# Altium integrated library IR Rectifier - Schottky.IntLib: 340 symbols (part 2 of 5)
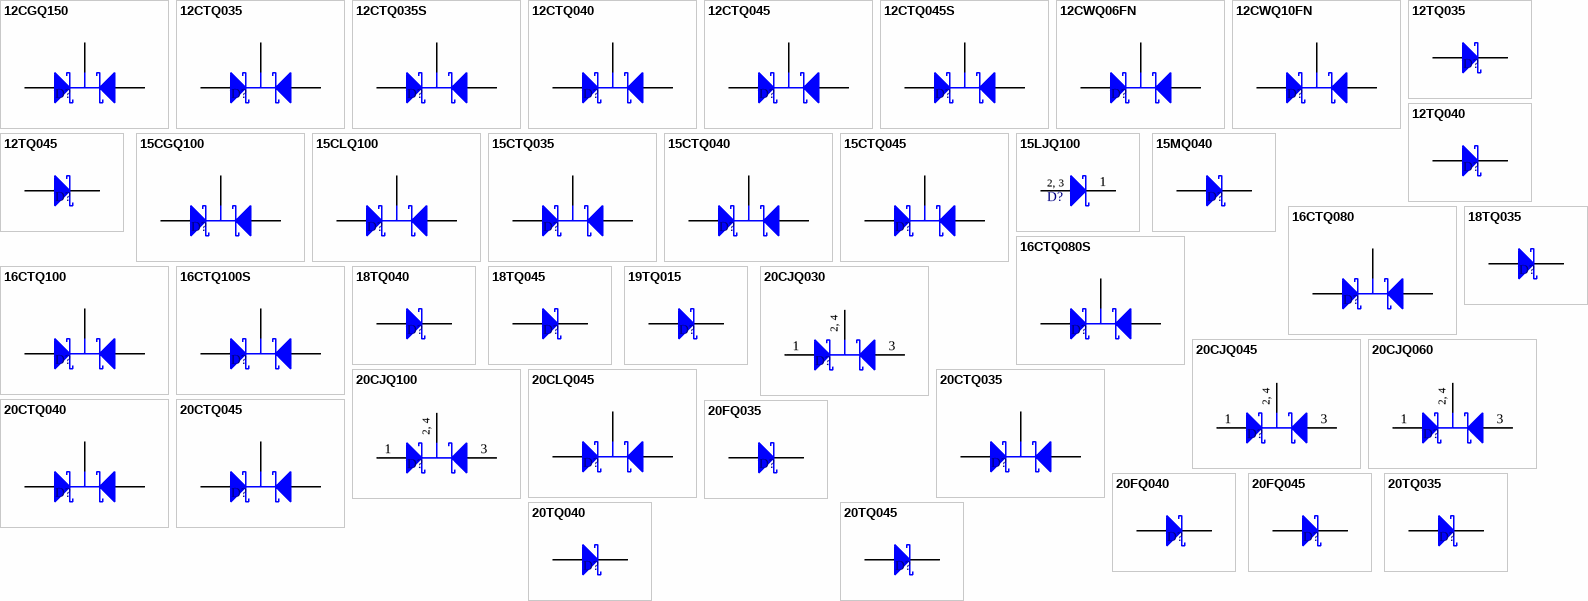
[diagram p9: symbols 12CGQ150 to 20TQ045]

## 20TQ035
designator D?
Schottky Rectifier; Note: Terminal 2 is the TAB and is electrically connected to the cathode; Published: 8-Jun-2000; LatestRevisionDate: 17-Jul-2002; LatestRevisionNote: Re-released for DXP Platform.; DatasheetDocument: Dec-1997; PackageDocument: Feb-1998; PackageReference: TO-220AC; Publisher: Altium Limited; ComponentLink1Description: Manufacturer Link; ComponentLink1URL: http://www.irf.com/; ComponentLink2Description: Datasheet; ComponentLink2URL: http://www.irf.com/product-info/datasheets/data/20tq.pdf
footprint TO-220AC (TO, Thru-Hole, Vertical, Heatsink Mounted; 3 In-Line Leads (1 Absent); Pitch 2.54 mm)
simulation model 20TQ035 (DIODE)
signal-integrity model 20TQ035
pins: 1 K, 3 A

## 20TQ040
designator D?
Schottky Rectifier; Note: Terminal 2 is the TAB and is electrically connected to the cathode; Published: 8-Jun-2000; LatestRevisionDate: 17-Jul-2002; LatestRevisionNote: Re-released for DXP Platform.; DatasheetDocument: Dec-1997; PackageDocument: Feb-1998; PackageReference: TO-220AC; Publisher: Altium Limited; ComponentLink1Description: Manufacturer Link; ComponentLink1URL: http://www.irf.com/; ComponentLink2Description: Datasheet; ComponentLink2URL: http://www.irf.com/product-info/datasheets/data/20tq.pdf
footprint TO-220AC (TO, Thru-Hole, Vertical, Heatsink Mounted; 3 In-Line Leads (1 Absent); Pitch 2.54 mm)
simulation model 20TQ040 (DIODE)
signal-integrity model 20TQ040
pins: 1 K, 3 A

## 20TQ045
designator D?
Schottky Rectifier; Note: Terminal 2 is the TAB and is electrically connected to the cathode; Published: 8-Jun-2000; LatestRevisionDate: 17-Jul-2002; LatestRevisionNote: Re-released for DXP Platform.; DatasheetDocument: Dec-1997; PackageDocument: Feb-1998; PackageReference: TO-220AC; Publisher: Altium Limited; ComponentLink1Description: Manufacturer Link; ComponentLink1URL: http://www.irf.com/; ComponentLink2Description: Datasheet; ComponentLink2URL: http://www.irf.com/product-info/datasheets/data/20tq.pdf
footprint TO-220AC (TO, Thru-Hole, Vertical, Heatsink Mounted; 3 In-Line Leads (1 Absent); Pitch 2.54 mm)
simulation model 20TQ045 (DIODE)
signal-integrity model 20TQ045
pins: 1 K, 3 A

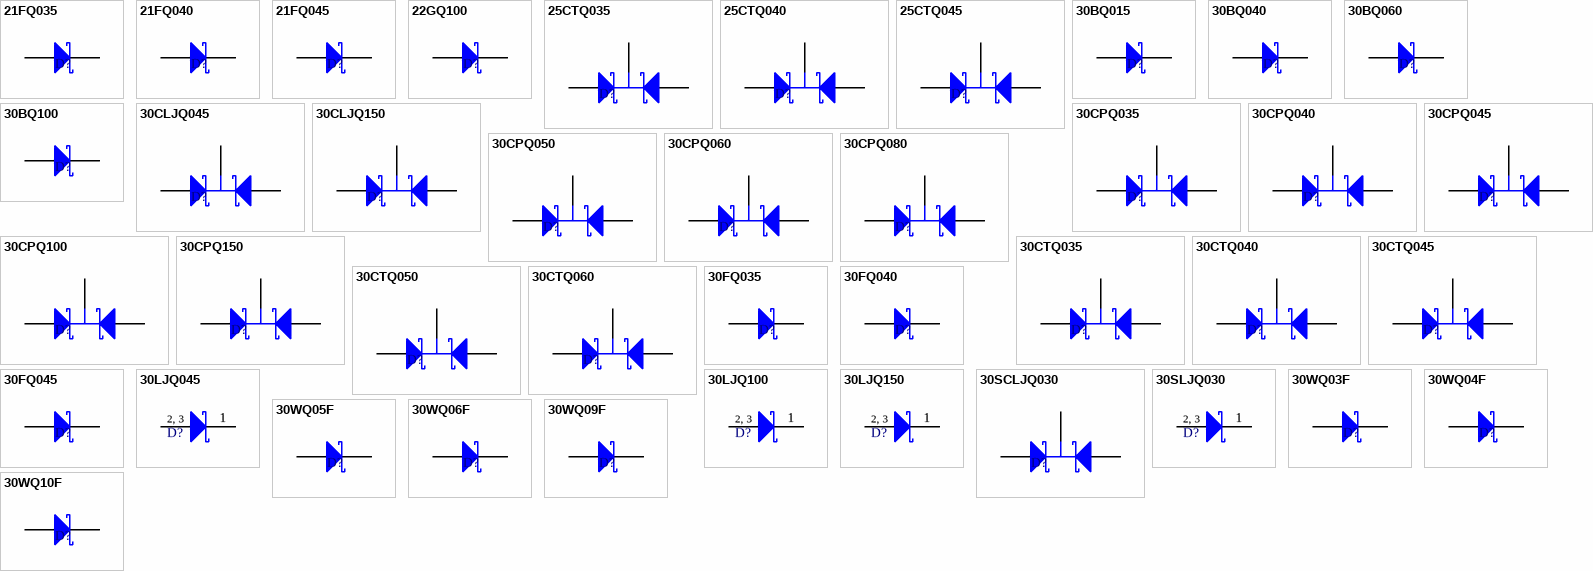
[diagram p2: symbols 21FQ035 to 30WQ10F]

## 21FQ035
designator D?
Schottky Rectifier; Note: No PCB Footprint Available; Published: 8-Jun-2000; LatestRevisionDate: 17-Jul-2002; LatestRevisionNote: Re-released for DXP Platform.; DatasheetDocument: Dec-1997; PackageReference: DO-203AA; Publisher: Altium Limited; ComponentLink1Description: Manufacturer Link; ComponentLink1URL: http://www.irf.com/; ComponentLink2Description: Datasheet; ComponentLink2URL: http://www.irf.com/product-info/datasheets/data/21fq.pdf
simulation model 21FQ035 (DIODE)
signal-integrity model 21FQ035
pins: 1 A, 2 K

## 21FQ040
designator D?
Schottky Rectifier; Note: No PCB Footprint Available; Published: 8-Jun-2000; LatestRevisionDate: 17-Jul-2002; LatestRevisionNote: Re-released for DXP Platform.; DatasheetDocument: Dec-1997; PackageReference: DO-203AA; Publisher: Altium Limited; ComponentLink1Description: Manufacturer Link; ComponentLink1URL: http://www.irf.com/; ComponentLink2Description: Datasheet; ComponentLink2URL: http://www.irf.com/product-info/datasheets/data/21fq.pdf
simulation model 21FQ040 (DIODE)
signal-integrity model 21FQ040
pins: 1 A, 2 K

## 21FQ045
designator D?
Schottky Rectifier; Note: No PCB Footprint Available; Published: 8-Jun-2000; LatestRevisionDate: 17-Jul-2002; LatestRevisionNote: Re-released for DXP Platform.; DatasheetDocument: Dec-1997; PackageReference: DO-203AA; Publisher: Altium Limited; ComponentLink1Description: Manufacturer Link; ComponentLink1URL: http://www.irf.com/; ComponentLink2Description: Datasheet; ComponentLink2URL: http://www.irf.com/product-info/datasheets/data/21fq.pdf
simulation model 21FQ045 (DIODE)
signal-integrity model 21FQ045
pins: 1 A, 2 K

## 22GQ100
designator D?
Schottky Rectifier; Note: Pin 2 is not connected and not drawn; Published: 17-Sep-2003; DatasheetDocument: 22-Feb-2002; PackageReference: TO-254AA; Publisher: Altium Limited; Code_JEDEC: TO-254-AA; ComponentLink1Description: Manufacturer Link; ComponentLink1URL: http://www.irf.com/; ComponentLink2Description: Datasheet; ComponentLink2URL: http://www.irf.com/product-info/datasheets/data/22GQ100.pdf
footprint TO-254AA (TO, Thru-Hole, Vertical, Heatsink Mounted; 3 In-Line Leads; Pitch 3.81 mm)
simulation model 22GQ100 (DIODE)
pins: 1 K, 3 A

## 25CTQ035
designator D?
Schottky Rectifier; Note: Pin 2 (cathode) is electrically connected to TAB; Published: 8-Jun-2000; LatestRevisionDate: 17-Jul-2002; LatestRevisionNote: Re-released for DXP Platform.; DatasheetDocument: Dec-1997; PackageDocument: Feb-1997; PackageReference: TO-220AB; Publisher: Altium Limited; ComponentLink1Description: Manufacturer Link; ComponentLink1URL: http://www.irf.com/; ComponentLink2Description: Datasheet; ComponentLink2URL: http://www.irf.com/product-info/datasheets/data/25ctq.pdf
footprint TO-220AB (TO, Thru-Hole, Vertical, Heatsink Mounted; 3 In-Line Leads; Pitch 2.54 mm)
signal-integrity model 25CTQ035
pins: 1 A1, 2 K, 3 A2

## 25CTQ040
designator D?
Schottky Rectifier; Note: Pin 2 (cathode) is electrically connected to TAB; Published: 8-Jun-2000; LatestRevisionDate: 17-Jul-2002; LatestRevisionNote: Re-released for DXP Platform.; DatasheetDocument: Dec-1997; PackageDocument: Feb-1997; PackageReference: TO-220AB; Publisher: Altium Limited; ComponentLink1Description: Manufacturer Link; ComponentLink1URL: http://www.irf.com/; ComponentLink2Description: Datasheet; ComponentLink2URL: http://www.irf.com/product-info/datasheets/data/25ctq.pdf
footprint TO-220AB (TO, Thru-Hole, Vertical, Heatsink Mounted; 3 In-Line Leads; Pitch 2.54 mm)
signal-integrity model 25CTQ040
pins: 1 A1, 2 K, 3 A2

## 25CTQ045
designator D?
Schottky Rectifier; Note: Pin 2 (cathode) is electrically connected to TAB; Published: 8-Jun-2000; LatestRevisionDate: 17-Jul-2002; LatestRevisionNote: Re-released for DXP Platform.; DatasheetDocument: Dec-1997; PackageDocument: Feb-1997; PackageReference: TO-220AB; Publisher: Altium Limited; ComponentLink1Description: Manufacturer Link; ComponentLink1URL: http://www.irf.com/; ComponentLink2Description: Datasheet; ComponentLink2URL: http://www.irf.com/product-info/datasheets/data/25ctq.pdf
footprint TO-220AB (TO, Thru-Hole, Vertical, Heatsink Mounted; 3 In-Line Leads; Pitch 2.54 mm)
signal-integrity model 25CTQ045
pins: 1 A1, 2 K, 3 A2

## 30BQ015
designator D?
Schottky Rectifier; Published: 8-Jun-2000; LatestRevisionDate: 17-Jul-2002; LatestRevisionNote: Re-released for DXP Platform.; DatasheetDocument: PD-2.490; PackageReference: SMC; Publisher: Altium Limited; Code_JEDEC: DO-214-AB; ComponentLink1Description: Manufacturer Link; ComponentLink1URL: http://www.irf.com/; ComponentLink2Description: Datasheet; ComponentLink2URL: http://www.irf.com/product-info/datasheets/data/30bq015.pdf
footprint SMC (DO-214-AB/SMC; 2 C-Bend Leads; Body 7.9 x 5.9 mm, inc. leads (LxW))
signal-integrity model 30BQ015
pins: 1 A, 2 K

## 30BQ040
designator D?
Schottky Rectifier; Published: 8-Jun-2000; LatestRevisionDate: 17-Jul-2002; LatestRevisionNote: Re-released for DXP Platform.; DatasheetDocument: PD-2.439; PackageReference: SMC; Publisher: Altium Limited; Code_JEDEC: DO-214-AB; ComponentLink1Description: Manufacturer Link; ComponentLink1URL: http://www.irf.com/; ComponentLink2Description: Datasheet; ComponentLink2URL: http://www.irf.com/product-info/datasheets/data/30bq040.pdf
footprint SMC (DO-214-AB/SMC; 2 C-Bend Leads; Body 7.9 x 5.9 mm, inc. leads (LxW))
signal-integrity model 30BQ040
pins: 1 A, 2 K

## 30BQ060
designator D?
Schottky Rectifier; Published: 8-Jun-2000; LatestRevisionDate: 17-Jul-2002; LatestRevisionNote: Re-released for DXP Platform.; DatasheetDocument: PD-2.440A; PackageReference: SMC; Publisher: Altium Limited; Code_JEDEC: DO-214-AB; ComponentLink1Description: Manufacturer Link; ComponentLink1URL: http://www.irf.com/; ComponentLink2Description: Datasheet; ComponentLink2URL: http://www.irf.com/product-info/datasheets/data/30bq060.pdf
footprint SMC (DO-214-AB/SMC; 2 C-Bend Leads; Body 7.9 x 5.9 mm, inc. leads (LxW))
signal-integrity model 30BQ060
pins: 1 A, 2 K

## 30BQ100
designator D?
Schottky Rectifier; Published: 8-Jun-2000; LatestRevisionDate: 17-Jul-2002; LatestRevisionNote: Re-released for DXP Platform.; DatasheetDocument: PD-2.441A; PackageReference: SMC; Publisher: Altium Limited; Code_JEDEC: DO-214-AB; ComponentLink1Description: Manufacturer Link; ComponentLink1URL: http://www.irf.com/; ComponentLink2Description: Datasheet; ComponentLink2URL: http://www.irf.com/product-info/datasheets/data/30bq100.pdf
footprint SMC (DO-214-AB/SMC; 2 C-Bend Leads; Body 7.9 x 5.9 mm, inc. leads (LxW))
signal-integrity model 30BQ100
pins: 1 A, 2 K

## 30CLJQ045
designator D?
Schottky Rectifier; Published: 17-Sep-2003; DatasheetDocument: PD-94304B; PackageDocument: 16-Sep-2002; PackageReference: SMD-0.5; Publisher: Altium Limited; ComponentLink1Description: Manufacturer Link; ComponentLink1URL: http://www.irf.com/; ComponentLink2Description: Datasheet; ComponentLink2URL: http://www.irf.com/product-info/datasheets/data/30CLJQ045.pdf
footprint SMD-0.5 (SM; 3 Leadless Terminals; Body 10.28 x 7.64 x 3.06 mm (LxWxH))
simulation model 30CLJQ045 (SUBCKT)
pins: 1 K, 2 A1, 3 A2

## 30CLJQ150
designator D?
Schottky Rectifier; Published: 17-Sep-2003; DatasheetDocument: PD-93950B; PackageDocument: 16-Sep-2002; PackageReference: SMD-0.5; Publisher: Altium Limited; ComponentLink1Description: Manufacturer Link; ComponentLink1URL: http://www.irf.com/; ComponentLink2Description: Datasheet; ComponentLink2URL: http://www.irf.com/product-info/datasheets/data/30CLJQ150.pdf
footprint SMD-0.5 (SM; 3 Leadless Terminals; Body 10.28 x 7.64 x 3.06 mm (LxWxH))
simulation model 30CLJQ150 (SUBCKT)
pins: 1 K, 2 A1, 3 A2

## 30CPQ035
designator D?
Schottky Rectifier; Published: 8-Jun-2000; LatestRevisionDate: 17-Jul-2002; LatestRevisionNote: Re-released for DXP Platform.; DatasheetDocument: Dec-1997; PackageDocument: Aug-1997; PackageReference: TO-247AC; Publisher: Altium Limited; Code_JEDEC: TO-247-AC; ComponentLink1Description: Manufacturer Link; ComponentLink1URL: http://www.irf.com/; ComponentLink2Description: Datasheet; ComponentLink2URL: http://www.irf.com/product-info/datasheets/data/30cpq035.pdf
footprint TO-247AC (SIP with Mounting Hole; 3 Leads; Body 20 x 15.6 x 5 mm (typ); Pitch 5.45 mm)
signal-integrity model 30CPQ035
pins: 1 A1, 2 K, 3 A2

## 30CPQ040
designator D?
Schottky Rectifier; Published: 8-Jun-2000; LatestRevisionDate: 17-Jul-2002; LatestRevisionNote: Re-released for DXP Platform.; DatasheetDocument: Dec-1997; PackageDocument: Aug-1997; PackageReference: TO-247AC; Publisher: Altium Limited; Code_JEDEC: TO-247-AC; ComponentLink1Description: Manufacturer Link; ComponentLink1URL: http://www.irf.com/; ComponentLink2Description: Datasheet; ComponentLink2URL: http://www.irf.com/product-info/datasheets/data/30cpq035.pdf
footprint TO-247AC (SIP with Mounting Hole; 3 Leads; Body 20 x 15.6 x 5 mm (typ); Pitch 5.45 mm)
signal-integrity model 30CPQ040
pins: 1 A1, 2 K, 3 A2

## 30CPQ045
designator D?
Schottky Rectifier; Published: 8-Jun-2000; LatestRevisionDate: 17-Jul-2002; LatestRevisionNote: Re-released for DXP Platform.; DatasheetDocument: Dec-1997; PackageDocument: Aug-1997; PackageReference: TO-247AC; Publisher: Altium Limited; Code_JEDEC: TO-247-AC; ComponentLink1Description: Manufacturer Link; ComponentLink1URL: http://www.irf.com/; ComponentLink2Description: Datasheet; ComponentLink2URL: http://www.irf.com/product-info/datasheets/data/30cpq035.pdf
footprint TO-247AC (SIP with Mounting Hole; 3 Leads; Body 20 x 15.6 x 5 mm (typ); Pitch 5.45 mm)
signal-integrity model 30CPQ045
pins: 1 A1, 2 K, 3 A2

## 30CPQ050
designator D?
Schottky Rectifier; Published: 8-Jun-2000; LatestRevisionDate: 17-Jul-2002; LatestRevisionNote: Re-released for DXP Platform.; DatasheetDocument: Dec-1997; PackageDocument: Aug-1997; PackageReference: TO-247AC; Publisher: Altium Limited; Code_JEDEC: TO-247-AC; ComponentLink1Description: Manufacturer Link; ComponentLink1URL: http://www.irf.com/; ComponentLink2Description: Datasheet; ComponentLink2URL: http://www.irf.com/product-info/datasheets/data/30cpq050.pdf
footprint TO-247AC (SIP with Mounting Hole; 3 Leads; Body 20 x 15.6 x 5 mm (typ); Pitch 5.45 mm)
signal-integrity model 30CPQ050
pins: 1 A1, 2 K, 3 A2

## 30CPQ060
designator D?
Schottky Rectifier; Published: 8-Jun-2000; LatestRevisionDate: 17-Jul-2002; LatestRevisionNote: Re-released for DXP Platform.; DatasheetDocument: Dec-1997; PackageDocument: Aug-1997; PackageReference: TO-247AC; Publisher: Altium Limited; Code_JEDEC: TO-247-AC; ComponentLink1Description: Manufacturer Link; ComponentLink1URL: http://www.irf.com/; ComponentLink2Description: Datasheet; ComponentLink2URL: http://www.irf.com/product-info/datasheets/data/30cpq050.pdf
footprint TO-247AC (SIP with Mounting Hole; 3 Leads; Body 20 x 15.6 x 5 mm (typ); Pitch 5.45 mm)
signal-integrity model 30CPQ060
pins: 1 A1, 2 K, 3 A2

## 30CPQ080
designator D?
Schottky Rectifier; Published: 8-Jun-2000; LatestRevisionDate: 17-Jul-2002; LatestRevisionNote: Re-released for DXP Platform.; DatasheetDocument: Dec-1997; PackageDocument: Aug-1997; PackageReference: TO-247AC; Publisher: Altium Limited; Code_JEDEC: TO-247-AC; ComponentLink1Description: Manufacturer Link; ComponentLink1URL: http://www.irf.com/; ComponentLink2Description: Datasheet; ComponentLink2URL: http://www.irf.com/product-info/datasheets/data/30cpq080.pdf
footprint TO-247AC (SIP with Mounting Hole; 3 Leads; Body 20 x 15.6 x 5 mm (typ); Pitch 5.45 mm)
signal-integrity model 30CPQ080
pins: 1 A1, 2 K, 3 A2

## 30CPQ100
designator D?
Schottky Rectifier; Published: 8-Jun-2000; LatestRevisionDate: 17-Jul-2002; LatestRevisionNote: Re-released for DXP Platform.; DatasheetDocument: Dec-1997; PackageDocument: Aug-1997; PackageReference: TO-247AC; Publisher: Altium Limited; Code_JEDEC: TO-247-AC; ComponentLink1Description: Manufacturer Link; ComponentLink1URL: http://www.irf.com/; ComponentLink2Description: Datasheet; ComponentLink2URL: http://www.irf.com/product-info/datasheets/data/30cpq080.pdf
footprint TO-247AC (SIP with Mounting Hole; 3 Leads; Body 20 x 15.6 x 5 mm (typ); Pitch 5.45 mm)
signal-integrity model 30CPQ100
pins: 1 A1, 2 K, 3 A2

## 30CPQ150
designator D?
Schottky Rectifier; Published: 8-Jun-2000; LatestRevisionDate: 17-Jul-2002; LatestRevisionNote: Re-released for DXP Platform.; DatasheetDocument: Dec-1997; PackageDocument: Aug-1997; PackageReference: TO-247AC; Publisher: Altium Limited; Code_JEDEC: TO-247-AC; ComponentLink1Description: Manufacturer Link; ComponentLink1URL: http://www.irf.com/; ComponentLink2Description: Datasheet; ComponentLink2URL: http://www.irf.com/product-info/datasheets/data/30cpq150.pdf
footprint TO-247AC (SIP with Mounting Hole; 3 Leads; Body 20 x 15.6 x 5 mm (typ); Pitch 5.45 mm)
signal-integrity model 30CPQ150
pins: 1 A1, 2 K, 3 A2

## 30CTQ035
designator D?
Schottky Rectifier; Note: Pin 2 (cathode) is electrically connected to TAB; Published: 8-Jun-2000; LatestRevisionDate: 17-Jul-2002; LatestRevisionNote: Re-released for DXP Platform.; DatasheetDocument: Dec-1997; PackageDocument: Feb-1997; PackageReference: TO-220AB; Publisher: Altium Limited; ComponentLink1Description: Manufacturer Link; ComponentLink1URL: http://www.irf.com/; ComponentLink2Description: Datasheet; ComponentLink2URL: http://www.irf.com/product-info/datasheets/data/30ctq035.pdf
footprint TO-220AB (TO, Thru-Hole, Vertical, Heatsink Mounted; 3 In-Line Leads; Pitch 2.54 mm)
signal-integrity model 30CTQ035
pins: 1 A1, 2 K, 3 A2

## 30CTQ040
designator D?
Schottky Rectifier; Note: Pin 2 (cathode) is electrically connected to TAB; Published: 8-Jun-2000; LatestRevisionDate: 17-Jul-2002; LatestRevisionNote: Re-released for DXP Platform.; DatasheetDocument: Dec-1997; PackageDocument: Feb-1997; PackageReference: TO-220AB; Publisher: Altium Limited; ComponentLink1Description: Manufacturer Link; ComponentLink1URL: http://www.irf.com/; ComponentLink2Description: Datasheet; ComponentLink2URL: http://www.irf.com/product-info/datasheets/data/30ctq035.pdf
footprint TO-220AB (TO, Thru-Hole, Vertical, Heatsink Mounted; 3 In-Line Leads; Pitch 2.54 mm)
signal-integrity model 30CTQ040
pins: 1 A1, 2 K, 3 A2

## 30CTQ045
designator D?
Schottky Rectifier; Note: Pin 2 (cathode) is electrically connected to TAB; Published: 8-Jun-2000; LatestRevisionDate: 17-Jul-2002; LatestRevisionNote: Re-released for DXP Platform.; DatasheetDocument: Dec-1997; PackageDocument: Feb-1997; PackageReference: TO-220AB; Publisher: Altium Limited; ComponentLink1Description: Manufacturer Link; ComponentLink1URL: http://www.irf.com/; ComponentLink2Description: Datasheet; ComponentLink2URL: http://www.irf.com/product-info/datasheets/data/30ctq035.pdf
footprint TO-220AB (TO, Thru-Hole, Vertical, Heatsink Mounted; 3 In-Line Leads; Pitch 2.54 mm)
signal-integrity model 30CTQ045
pins: 1 A1, 2 K, 3 A2

## 30CTQ050
designator D?
Schottky Rectifier; Note: Pin 2 (cathode) is electrically connected to TAB; Published: 8-Jun-2000; LatestRevisionDate: 17-Jul-2002; LatestRevisionNote: Re-released for DXP Platform.; DatasheetDocument: Apr-1999; PackageDocument: Feb-1997; PackageReference: TO-220AB; Publisher: Altium Limited; ComponentLink1Description: Manufacturer Link; ComponentLink1URL: http://www.irf.com/; ComponentLink2Description: Datasheet; ComponentLink2URL: http://www.irf.com/product-info/datasheets/data/30ctq050.pdf
footprint TO-220AB (TO, Thru-Hole, Vertical, Heatsink Mounted; 3 In-Line Leads; Pitch 2.54 mm)
signal-integrity model 30CTQ050
pins: 1 A1, 2 K, 3 A2

## 30CTQ060
designator D?
Schottky Rectifier; Note: Pin 2 (cathode) is electrically connected to TAB; Published: 8-Jun-2000; LatestRevisionDate: 17-Jul-2002; LatestRevisionNote: Re-released for DXP Platform.; DatasheetDocument: Apr-1999; PackageDocument: Feb-1997; PackageReference: TO-220AB; Publisher: Altium Limited; ComponentLink1Description: Manufacturer Link; ComponentLink1URL: http://www.irf.com/; ComponentLink2Description: Datasheet; ComponentLink2URL: http://www.irf.com/product-info/datasheets/data/30ctq060.pdf
footprint TO-220AB (TO, Thru-Hole, Vertical, Heatsink Mounted; 3 In-Line Leads; Pitch 2.54 mm)
signal-integrity model 30CTQ060
pins: 1 A1, 2 K, 3 A2

## 30FQ035
designator D?
30 Amp Schottky Power Rectifier; Note: No PCB Footprint Available; Published: 8-Jun-2000; LatestRevisionDate: 17-Jul-2002; LatestRevisionNote: Re-released for DXP Platform.; DatasheetDocument: PD-2.039B; PackageReference: DO-203AA; Publisher: Altium Limited; ComponentLink1Description: Manufacturer Link; ComponentLink1URL: http://www.irf.com/; ComponentLink2Description: Datasheet; ComponentLink2URL: http://www.irf.com/product-info/datasheets/data/30FQ.pdf
simulation model 30FQ035 (DIODE)
signal-integrity model 30FQ035
pins: 1 A, 2 K

## 30FQ040
designator D?
30 Amp Schottky Power Rectifier; Note: No PCB Footprint Available; Published: 8-Jun-2000; LatestRevisionDate: 17-Jul-2002; LatestRevisionNote: Re-released for DXP Platform.; DatasheetDocument: PD-2.039B; PackageReference: DO-203AA; Publisher: Altium Limited; ComponentLink1Description: Manufacturer Link; ComponentLink1URL: http://www.irf.com/; ComponentLink2Description: Datasheet; ComponentLink2URL: http://www.irf.com/product-info/datasheets/data/30FQ.pdf
simulation model 30FQ040 (DIODE)
signal-integrity model 30FQ040
pins: 1 A, 2 K

## 30FQ045
designator D?
30 Amp Schottky Power Rectifier; Note: No PCB Footprint Available; Published: 8-Jun-2000; LatestRevisionDate: 17-Jul-2002; LatestRevisionNote: Re-released for DXP Platform.; DatasheetDocument: PD-2.039B; PackageReference: DO-203AA; Publisher: Altium Limited; ComponentLink1Description: Manufacturer Link; ComponentLink1URL: http://www.irf.com/; ComponentLink2Description: Datasheet; ComponentLink2URL: http://www.irf.com/product-info/datasheets/data/30FQ.pdf
simulation model 30FQ045 (DIODE)
signal-integrity model 30FQ045
pins: 1 A, 2 K

## 30LJQ045
designator D?
Schottky Rectifier; Published: 17-Sep-2003; DatasheetDocument: 21-Aug-2001; PackageDocument: 16-Sep-2002; PackageReference: SMD-0.5; Publisher: Altium Limited; ComponentLink1Description: Manufacturer Link; ComponentLink1URL: http://www.irf.com/; ComponentLink2Description: Datasheet; ComponentLink2URL: http://www.irf.com/product-info/datasheets/data/30LJQ045.pdf
footprint SMD-0.5 (SM; 3 Leadless Terminals; Body 10.28 x 7.64 x 3.06 mm (LxWxH))
simulation model 30LJQ045 (DIODE)
pins: 1 K, 2 A1, 3 A2
text: 2, 3

## 30LJQ100
designator D?
Schottky Rectifier; Published: 17-Sep-2003; DatasheetDocument: 4-Oct-2000; PackageDocument: 16-Sep-2002; PackageReference: SMD-0.5; Publisher: Altium Limited; ComponentLink1Description: Manufacturer Link; ComponentLink1URL: http://www.irf.com/; ComponentLink2Description: Datasheet; ComponentLink2URL: http://www.irf.com/product-info/datasheets/data/30LJQ100.pdf
footprint SMD-0.5 (SM; 3 Leadless Terminals; Body 10.28 x 7.64 x 3.06 mm (LxWxH))
simulation model 30LJQ100 (DIODE)
pins: 1 K, 2 A1, 3 A2
text: 2, 3

## 30LJQ150
designator D?
Schottky Rectifier; Published: 17-Sep-2003; DatasheetDocument: 28-Jun-2001; PackageDocument: 16-Sep-2002; PackageReference: SMD-0.5; Publisher: Altium Limited; ComponentLink1Description: Manufacturer Link; ComponentLink1URL: http://www.irf.com/; ComponentLink2Description: Datasheet; ComponentLink2URL: http://www.irf.com/product-info/datasheets/data/30LJQ150.pdf
footprint SMD-0.5 (SM; 3 Leadless Terminals; Body 10.28 x 7.64 x 3.06 mm (LxWxH))
simulation model 30LJQ150 (DIODE)
pins: 1 K, 2 A1, 3 A2
text: 2, 3

## 30SCLJQ030
designator D?
Schottky Rectifier; Published: 17-Sep-2003; DatasheetDocument: 20-Dec-2000; PackageDocument: 16-Sep-2002; PackageReference: SMD-0.5; Publisher: Altium Limited; ComponentLink1Description: Manufacturer Link; ComponentLink1URL: http://www.irf.com/; ComponentLink2Description: Datasheet; ComponentLink2URL: http://www.irf.com/product-info/datasheets/data/30SCLJQ030.pdf
footprint SMD-0.5 (SM; 3 Leadless Terminals; Body 10.28 x 7.64 x 3.06 mm (LxWxH))
simulation model 30SCLJQ030 (SUBCKT)
pins: 1 K, 2 A1, 3 A2

## 30SLJQ030
designator D?
Schottky Rectifier; Published: 17-Sep-2003; DatasheetDocument: PD-93966; PackageDocument: 16-Sep-2002; PackageReference: SMD-0.5; Publisher: Altium Limited; ComponentLink1Description: Manufacturer Link; ComponentLink1URL: http://www.irf.com/; ComponentLink2Description: Datasheet; ComponentLink2URL: http://www.irf.com/product-info/datasheets/data/30SLJQ030.pdf
footprint SMD-0.5 (SM; 3 Leadless Terminals; Body 10.28 x 7.64 x 3.06 mm (LxWxH))
simulation model 30SLJQ030 (DIODE)
pins: 1 K, 2 A1, 3 A2
text: 2, 3

## 30WQ03F
designator D?
Schottky Rectifier; Note: Pin 2 (cathode) is trimmed but is electrically connected to Terminal 4 (BASE); Pin 1 is not connected and not drawn; Published: 8-Jun-2000; LatestRevisionDate: 17-Jul-2002; LatestRevisionNote: Re-released for DXP Platform.; DatasheetDocument: Dec-1997; PackageDocument: Dec-1997; PackageReference: TO-252AA_A; Publisher: Altium Limited; ComponentLink1Description: Manufacturer Link; ComponentLink1URL: http://www.irf.com/; ComponentLink2Description: Datasheet; ComponentLink2URL: http://www.irf.com/product-info/datasheets/data/30wq03f.pdf
footprint TO-252AA_A (D-PAK/TO-252-AA; 3 Leads (1 Cropped); Body 10.2 (inc. leads) x 6.7 mm (LxW max))
simulation model 30WQ03F (DIODE)
signal-integrity model 30WQ03F
pins: 3 A, 4 K

## 30WQ04F
designator D?
Schottky Rectifier; Note: Pin 2 (cathode) is trimmed but is electrically connected to Terminal 4 (BASE); Pin 1 is not connected and not drawn; Published: 8-Jun-2000; LatestRevisionDate: 17-Jul-2002; LatestRevisionNote: Re-released for DXP Platform.; DatasheetDocument: Dec-1997; PackageDocument: Dec-1997; PackageReference: TO-252AA_A; Publisher: Altium Limited; ComponentLink1Description: Manufacturer Link; ComponentLink1URL: http://www.irf.com/; ComponentLink2Description: Datasheet; ComponentLink2URL: http://www.irf.com/product-info/datasheets/data/30wq03f.pdf
footprint TO-252AA_A (D-PAK/TO-252-AA; 3 Leads (1 Cropped); Body 10.2 (inc. leads) x 6.7 mm (LxW max))
simulation model 30WQ04F (DIODE)
signal-integrity model 30WQ04F
pins: 3 A, 4 K

## 30WQ05F
designator D?
Schottky Rectifier; Note: Pin 2 (cathode) is trimmed but is electrically connected to Terminal 4 (BASE); Pin 1 is not connected and not drawn; Published: 8-Jun-2000; LatestRevisionDate: 17-Jul-2002; LatestRevisionNote: Re-released for DXP Platform.; DatasheetDocument: Dec-1997; PackageDocument: Dec-1997; PackageReference: TO-252AA_A; Publisher: Altium Limited; ComponentLink1Description: Manufacturer Link; ComponentLink1URL: http://www.irf.com/; ComponentLink2Description: Datasheet; ComponentLink2URL: http://www.irf.com/product-info/datasheets/data/30wq05f.pdf
footprint TO-252AA_A (D-PAK/TO-252-AA; 3 Leads (1 Cropped); Body 10.2 (inc. leads) x 6.7 mm (LxW max))
simulation model 30WQ05F (DIODE)
signal-integrity model 30WQ05F
pins: 3 A, 4 K

## 30WQ06F
designator D?
Schottky Rectifier; Note: Pin 2 (cathode) is trimmed but is electrically connected to Terminal 4 (BASE); Pin 1 is not connected and not drawn; Published: 8-Jun-2000; LatestRevisionDate: 17-Jul-2002; LatestRevisionNote: Re-released for DXP Platform.; DatasheetDocument: Dec-1997; PackageDocument: Dec-1997; PackageReference: TO-252AA_A; Publisher: Altium Limited; ComponentLink1Description: Manufacturer Link; ComponentLink1URL: http://www.irf.com/; ComponentLink2Description: Datasheet; ComponentLink2URL: http://www.irf.com/product-info/datasheets/data/30wq05f.pdf
footprint TO-252AA_A (D-PAK/TO-252-AA; 3 Leads (1 Cropped); Body 10.2 (inc. leads) x 6.7 mm (LxW max))
simulation model 30WQ06F (DIODE)
signal-integrity model 30WQ06F
pins: 3 A, 4 K

## 30WQ09F
designator D?
Schottky Rectifier; Note: Pin 2 (cathode) is trimmed but is electrically connected to Terminal 4 (BASE); Pin 1 is not connected and not drawn; Published: 8-Jun-2000; LatestRevisionDate: 17-Jul-2002; LatestRevisionNote: Re-released for DXP Platform.; DatasheetDocument: Dec-1997; PackageDocument: Dec-1997; PackageReference: TO-252AA_A; Publisher: Altium Limited; ComponentLink1Description: Manufacturer Link; ComponentLink1URL: http://www.irf.com/; ComponentLink2Description: Datasheet; ComponentLink2URL: http://www.irf.com/product-info/datasheets/data/30wq09f.pdf
footprint TO-252AA_A (D-PAK/TO-252-AA; 3 Leads (1 Cropped); Body 10.2 (inc. leads) x 6.7 mm (LxW max))
simulation model 30WQ09F (DIODE)
signal-integrity model 30WQ09F
pins: 3 A, 4 K

## 30WQ10F
designator D?
Schottky Rectifier; Note: Pin 2 (cathode) is trimmed but is electrically connected to Terminal 4 (BASE); Pin 1 is not connected and not drawn; Published: 8-Jun-2000; LatestRevisionDate: 17-Jul-2002; LatestRevisionNote: Re-released for DXP Platform.; DatasheetDocument: Dec-1997; PackageDocument: Dec-1997; PackageReference: TO-252AA_A; Publisher: Altium Limited; ComponentLink1Description: Manufacturer Link; ComponentLink1URL: http://www.irf.com/; ComponentLink2Description: Datasheet; ComponentLink2URL: http://www.irf.com/product-info/datasheets/data/30wq09f.pdf
footprint TO-252AA_A (D-PAK/TO-252-AA; 3 Leads (1 Cropped); Body 10.2 (inc. leads) x 6.7 mm (LxW max))
simulation model 30WQ10F (DIODE)
signal-integrity model 30WQ10F
pins: 3 A, 4 K

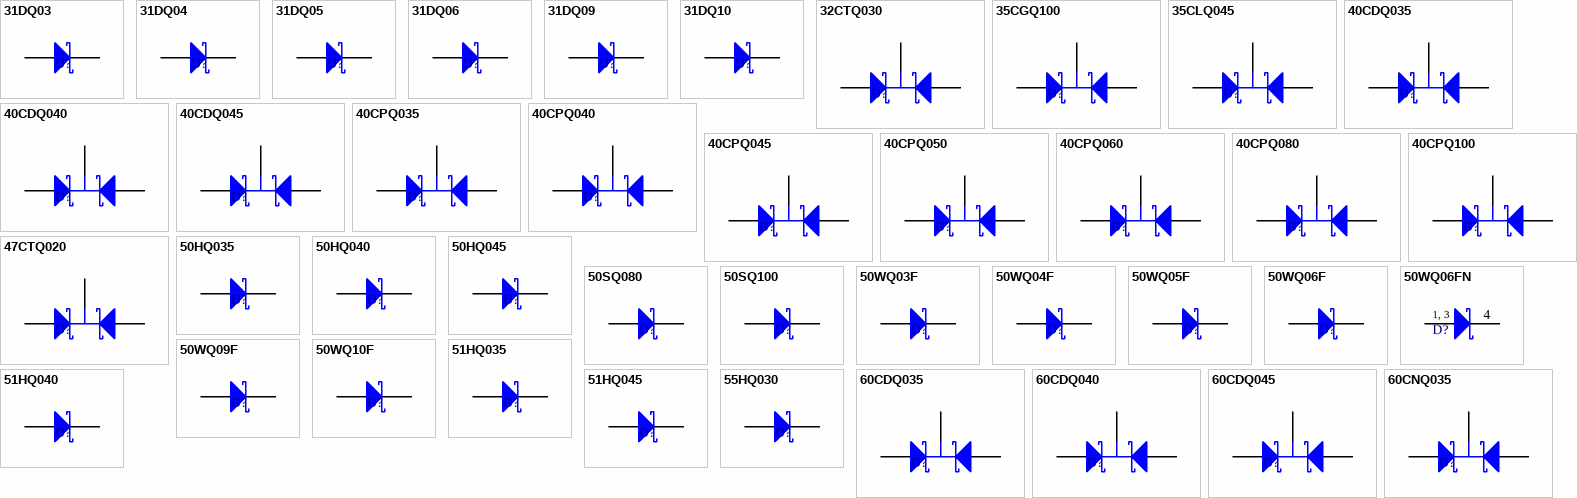
[diagram p3: symbols 31DQ03 to 60CNQ035]

## 31DQ03
designator D?
Schottky Rectifier; Published: 8-Jun-2000; LatestRevisionDate: 17-Jul-2002; LatestRevisionNote: Re-released for DXP Platform.; DatasheetDocument: Dec-1997; PackageReference: C-16; Publisher: Altium Limited; ComponentLink1Description: Manufacturer Link; ComponentLink1URL: http://www.irf.com/; ComponentLink2Description: Datasheet; ComponentLink2URL: http://www.irf.com/product-info/datasheets/data/31dq03.pdf
footprint C-16 (Diode, Axial; Body 9.9 x 5.8 mm (LxDia. max), Lead Dia. 1.5 mm (max))
signal-integrity model 31DQ03
pins: 1 A, 2 K

## 31DQ04
designator D?
Schottky Rectifier; Published: 8-Jun-2000; LatestRevisionDate: 17-Jul-2002; LatestRevisionNote: Re-released for DXP Platform.; DatasheetDocument: Dec-1997; PackageReference: C-16; Publisher: Altium Limited; ComponentLink1Description: Manufacturer Link; ComponentLink1URL: http://www.irf.com/; ComponentLink2Description: Datasheet; ComponentLink2URL: http://www.irf.com/product-info/datasheets/data/31dq03.pdf
footprint C-16 (Diode, Axial; Body 9.9 x 5.8 mm (LxDia. max), Lead Dia. 1.5 mm (max))
signal-integrity model 31DQ04
pins: 1 A, 2 K

## 31DQ05
designator D?
Schottky Rectifier; Published: 8-Jun-2000; LatestRevisionDate: 17-Jul-2002; LatestRevisionNote: Re-released for DXP Platform.; DatasheetDocument: Dec-1997; PackageReference: C-16; Publisher: Altium Limited; ComponentLink1Description: Manufacturer Link; ComponentLink1URL: http://www.irf.com/; ComponentLink2Description: Datasheet; ComponentLink2URL: http://www.irf.com/product-info/datasheets/data/31dq05.pdf
footprint C-16 (Diode, Axial; Body 9.9 x 5.8 mm (LxDia. max), Lead Dia. 1.5 mm (max))
signal-integrity model 31DQ05
pins: 1 A, 2 K

## 31DQ06
designator D?
Schottky Rectifier; Published: 8-Jun-2000; LatestRevisionDate: 17-Jul-2002; LatestRevisionNote: Re-released for DXP Platform.; DatasheetDocument: Dec-1997; PackageReference: C-16; Publisher: Altium Limited; ComponentLink1Description: Manufacturer Link; ComponentLink1URL: http://www.irf.com/; ComponentLink2Description: Datasheet; ComponentLink2URL: http://www.irf.com/product-info/datasheets/data/31dq05.pdf
footprint C-16 (Diode, Axial; Body 9.9 x 5.8 mm (LxDia. max), Lead Dia. 1.5 mm (max))
signal-integrity model 31DQ06
pins: 1 A, 2 K

## 31DQ09
designator D?
Schottky Rectifier; Published: 8-Jun-2000; LatestRevisionDate: 17-Jul-2002; LatestRevisionNote: Re-released for DXP Platform.; DatasheetDocument: Dec-1997; PackageReference: C-16; Publisher: Altium Limited; ComponentLink1Description: Manufacturer Link; ComponentLink1URL: http://www.irf.com/; ComponentLink2Description: Datasheet; ComponentLink2URL: http://www.irf.com/product-info/datasheets/data/31dq09.pdf
footprint C-16 (Diode, Axial; Body 9.9 x 5.8 mm (LxDia. max), Lead Dia. 1.5 mm (max))
signal-integrity model 31DQ09
pins: 1 A, 2 K

## 31DQ10
designator D?
Schottky Rectifier; Published: 8-Jun-2000; LatestRevisionDate: 17-Jul-2002; LatestRevisionNote: Re-released for DXP Platform.; DatasheetDocument: Dec-1997; PackageReference: C-16; Publisher: Altium Limited; ComponentLink1Description: Manufacturer Link; ComponentLink1URL: http://www.irf.com/; ComponentLink2Description: Datasheet; ComponentLink2URL: http://www.irf.com/product-info/datasheets/data/31dq09.pdf
footprint C-16 (Diode, Axial; Body 9.9 x 5.8 mm (LxDia. max), Lead Dia. 1.5 mm (max))
signal-integrity model 31DQ10
pins: 1 A, 2 K

## 32CTQ030
designator D?
Schottky Rectifier; Note: Pin 2 (cathode) is electrically connected to TAB; Published: 8-Jun-2000; LatestRevisionDate: 17-Jul-2002; LatestRevisionNote: Re-released for DXP Platform.; DatasheetDocument: Oct-1998; PackageDocument: Feb-1997; PackageReference: TO-220AB; Publisher: Altium Limited; ComponentLink1Description: Manufacturer Link; ComponentLink1URL: http://www.irf.com/; ComponentLink2Description: Datasheet; ComponentLink2URL: http://www.irf.com/product-info/datasheets/data/32ctq030.pdf
footprint TO-220AB (TO, Thru-Hole, Vertical, Heatsink Mounted; 3 In-Line Leads; Pitch 2.54 mm)
simulation model 32CTQ030 (SUBCKT)
signal-integrity model 32CTQ030
pins: 1 A1, 2 K, 3 A2

## 35CGQ100
designator D?
Schottky Rectifier; Published: 17-Sep-2003; DatasheetDocument: 15-Nov-2000; PackageReference: TO-254AA; Publisher: Altium Limited; Code_JEDEC: TO-254-AA; ComponentLink1Description: Manufacturer Link; ComponentLink1URL: http://www.irf.com/; ComponentLink2Description: Datasheet; ComponentLink2URL: http://www.irf.com/product-info/datasheets/data/35CGQ100.pdf
footprint TO-254AA (TO, Thru-Hole, Vertical, Heatsink Mounted; 3 In-Line Leads; Pitch 3.81 mm)
simulation model 35CGQ100 (SUBCKT)
pins: 1 A1, 2 K, 3 A2

## 35CLQ045
designator D?
Schottky Rectifier; Published: 17-Sep-2003; DatasheetDocument: PD-20503C; PackageDocument: 10-Jul-2001; PackageReference: SMD-1; Publisher: Altium Limited; ComponentLink1Description: Manufacturer Link; ComponentLink1URL: http://www.irf.com/; ComponentLink2Description: Datasheet; ComponentLink2URL: http://www.irf.com/product-info/datasheets/data/35CLQ045.pdf
footprint SMD-1 (SM; 3 Leadless Terminals; Body 16 x 11.55 x 3.58 mm (LxWxH))
simulation model 35CLQ045 (SUBCKT)
pins: 1 K, 2 A1, 3 A2

## 40CDQ035
designator D?
Schottky Rectifier; Published: 8-Jun-2000; LatestRevisionDate: 17-Jul-2002; LatestRevisionNote: Re-released for DXP Platform.; DatasheetDocument: Dec-1997; PackageDocument: Dec-1997; PackageReference: TO-204AA; Publisher: Altium Limited; ComponentLink1Description: Manufacturer Link; ComponentLink1URL: http://www.irf.com/; ComponentLink2Description: Datasheet; ComponentLink2URL: http://www.irf.com/product-info/datasheets/data/40cdq.pdf
footprint TO-204AA (Oval Flange Mount with (2) Offset Leads; Pin Spacing 10.92 mm; Lead Dia. 1.07 mm (max))
simulation model 40CDQ035 (SUBCKT)
signal-integrity model 40CDQ035
pins: 1 A1, 2 A2, 3 K

## 40CDQ040
designator D?
Schottky Rectifier; Published: 8-Jun-2000; LatestRevisionDate: 17-Jul-2002; LatestRevisionNote: Re-released for DXP Platform.; DatasheetDocument: Dec-1997; PackageDocument: Dec-1997; PackageReference: TO-204AA; Publisher: Altium Limited; ComponentLink1Description: Manufacturer Link; ComponentLink1URL: http://www.irf.com/; ComponentLink2Description: Datasheet; ComponentLink2URL: http://www.irf.com/product-info/datasheets/data/40cdq.pdf
footprint TO-204AA (Oval Flange Mount with (2) Offset Leads; Pin Spacing 10.92 mm; Lead Dia. 1.07 mm (max))
simulation model 40CDQ040 (SUBCKT)
signal-integrity model 40CDQ040
pins: 1 A1, 2 A2, 3 K

## 40CDQ045
designator D?
Schottky Rectifier; Published: 8-Jun-2000; LatestRevisionDate: 17-Jul-2002; LatestRevisionNote: Re-released for DXP Platform.; DatasheetDocument: Dec-1997; PackageDocument: Dec-1997; PackageReference: TO-204AA; Publisher: Altium Limited; ComponentLink1Description: Manufacturer Link; ComponentLink1URL: http://www.irf.com/; ComponentLink2Description: Datasheet; ComponentLink2URL: http://www.irf.com/product-info/datasheets/data/40cdq.pdf
footprint TO-204AA (Oval Flange Mount with (2) Offset Leads; Pin Spacing 10.92 mm; Lead Dia. 1.07 mm (max))
simulation model 40CDQ045 (SUBCKT)
signal-integrity model 40CDQ045
pins: 1 A1, 2 A2, 3 K

## 40CPQ035
designator D?
Schottky Rectifier; Published: 8-Jun-2000; LatestRevisionDate: 17-Jul-2002; LatestRevisionNote: Re-released for DXP Platform.; DatasheetDocument: Dec-1997; PackageDocument: Aug-1997; PackageReference: TO-247AC; Publisher: Altium Limited; Code_JEDEC: TO-247-AC; ComponentLink1Description: Manufacturer Link; ComponentLink1URL: http://www.irf.com/; ComponentLink2Description: Datasheet; ComponentLink2URL: http://www.irf.com/product-info/datasheets/data/40cpq035.pdf
footprint TO-247AC (SIP with Mounting Hole; 3 Leads; Body 20 x 15.6 x 5 mm (typ); Pitch 5.45 mm)
signal-integrity model 40CPQ035
pins: 1 A1, 2 K, 3 A2

## 40CPQ040
designator D?
Schottky Rectifier; Published: 8-Jun-2000; LatestRevisionDate: 17-Jul-2002; LatestRevisionNote: Re-released for DXP Platform.; DatasheetDocument: Dec-1997; PackageDocument: Aug-1997; PackageReference: TO-247AC; Publisher: Altium Limited; Code_JEDEC: TO-247-AC; ComponentLink1Description: Manufacturer Link; ComponentLink1URL: http://www.irf.com/; ComponentLink2Description: Datasheet; ComponentLink2URL: http://www.irf.com/product-info/datasheets/data/40cpq035.pdf
footprint TO-247AC (SIP with Mounting Hole; 3 Leads; Body 20 x 15.6 x 5 mm (typ); Pitch 5.45 mm)
signal-integrity model 40CPQ040
pins: 1 A1, 2 K, 3 A2

## 40CPQ045
designator D?
Schottky Rectifier; Published: 8-Jun-2000; LatestRevisionDate: 17-Jul-2002; LatestRevisionNote: Re-released for DXP Platform.; DatasheetDocument: Dec-1997; PackageDocument: Aug-1997; PackageReference: TO-247AC; Publisher: Altium Limited; Code_JEDEC: TO-247-AC; ComponentLink1Description: Manufacturer Link; ComponentLink1URL: http://www.irf.com/; ComponentLink2Description: Datasheet; ComponentLink2URL: http://www.irf.com/product-info/datasheets/data/40cpq035.pdf
footprint TO-247AC (SIP with Mounting Hole; 3 Leads; Body 20 x 15.6 x 5 mm (typ); Pitch 5.45 mm)
signal-integrity model 40CPQ045
pins: 1 A1, 2 K, 3 A2

## 40CPQ050
designator D?
Schottky Rectifier; Published: 8-Jun-2000; LatestRevisionDate: 17-Jul-2002; LatestRevisionNote: Re-released for DXP Platform.; DatasheetDocument: Dec-1997; PackageDocument: Aug-1997; PackageReference: TO-247AC; Publisher: Altium Limited; Code_JEDEC: TO-247-AC; ComponentLink1Description: Manufacturer Link; ComponentLink1URL: http://www.irf.com/; ComponentLink2Description: Datasheet; ComponentLink2URL: http://www.irf.com/product-info/datasheets/data/40cpq050.pdf
footprint TO-247AC (SIP with Mounting Hole; 3 Leads; Body 20 x 15.6 x 5 mm (typ); Pitch 5.45 mm)
signal-integrity model 40CPQ050
pins: 1 A1, 2 K, 3 A2

## 40CPQ060
designator D?
Schottky Rectifier; Published: 8-Jun-2000; LatestRevisionDate: 17-Jul-2002; LatestRevisionNote: Re-released for DXP Platform.; DatasheetDocument: Dec-1997; PackageDocument: Aug-1997; PackageReference: TO-247AC; Publisher: Altium Limited; Code_JEDEC: TO-247-AC; ComponentLink1Description: Manufacturer Link; ComponentLink1URL: http://www.irf.com/; ComponentLink2Description: Datasheet; ComponentLink2URL: http://www.irf.com/product-info/datasheets/data/40cpq050.pdf
footprint TO-247AC (SIP with Mounting Hole; 3 Leads; Body 20 x 15.6 x 5 mm (typ); Pitch 5.45 mm)
simulation model 40CPQ060 (SUBCKT)
signal-integrity model 40CPQ060
pins: 1 A1, 2 K, 3 A2

## 40CPQ080
designator D?
Schottky Rectifier; Published: 8-Jun-2000; LatestRevisionDate: 17-Jul-2002; LatestRevisionNote: Re-released for DXP Platform.; DatasheetDocument: Dec-1997; PackageDocument: Aug-1997; PackageReference: TO-247AC; Publisher: Altium Limited; Code_JEDEC: TO-247-AC; ComponentLink1Description: Manufacturer Link; ComponentLink1URL: http://www.irf.com/; ComponentLink2Description: Datasheet; ComponentLink2URL: http://www.irf.com/product-info/datasheets/data/40cpq080.pdf
footprint TO-247AC (SIP with Mounting Hole; 3 Leads; Body 20 x 15.6 x 5 mm (typ); Pitch 5.45 mm)
signal-integrity model 40CPQ080
pins: 1 A1, 2 K, 3 A2

## 40CPQ100
designator D?
Schottky Rectifier; Published: 8-Jun-2000; LatestRevisionDate: 17-Jul-2002; LatestRevisionNote: Re-released for DXP Platform.; DatasheetDocument: Dec-1997; PackageDocument: Aug-1997; PackageReference: TO-247AC; Publisher: Altium Limited; Code_JEDEC: TO-247-AC; ComponentLink1Description: Manufacturer Link; ComponentLink1URL: http://www.irf.com/; ComponentLink2Description: Datasheet; ComponentLink2URL: http://www.irf.com/product-info/datasheets/data/40cpq080.pdf
footprint TO-247AC (SIP with Mounting Hole; 3 Leads; Body 20 x 15.6 x 5 mm (typ); Pitch 5.45 mm)
signal-integrity model 40CPQ100
pins: 1 A1, 2 K, 3 A2

## 47CTQ020
designator D?
Schottky Rectifier; Note: Pin 2 (cathode) is electrically connected to TAB; Published: 8-Jun-2000; LatestRevisionDate: 17-Jul-2002; LatestRevisionNote: Re-released for DXP Platform.; DatasheetDocument: May-1999; PackageDocument: Feb-1997; PackageReference: TO-220AB; Publisher: Altium Limited; ComponentLink1Description: Manufacturer Link; ComponentLink1URL: http://www.irf.com/; ComponentLink2Description: Datasheet; ComponentLink2URL: http://www.irf.com/product-info/datasheets/data/47ctq020.pdf
footprint TO-220AB (TO, Thru-Hole, Vertical, Heatsink Mounted; 3 In-Line Leads; Pitch 2.54 mm)
signal-integrity model 47CTQ020
pins: 1 A1, 2 K, 3 A2

## 50HQ035
designator D?
Schottky Rectifier; Note: No PCB Footprint Available; Published: 8-Jun-2000; LatestRevisionDate: 17-Jul-2002; LatestRevisionNote: Re-released for DXP Platform.; DatasheetDocument: Dec-1997; PackageReference: DO-203AB; Publisher: Altium Limited; ComponentLink1Description: Manufacturer Link; ComponentLink1URL: http://www.irf.com/; ComponentLink2Description: Datasheet; ComponentLink2URL: http://www.irf.com/product-info/datasheets/data/50hq.pdf
simulation model 50HQ035 (DIODE)
signal-integrity model 50HQ035
pins: 1 A, 2 K

## 50HQ040
designator D?
Schottky Rectifier; Note: No PCB Footprint Available; Published: 8-Jun-2000; LatestRevisionDate: 17-Jul-2002; LatestRevisionNote: Re-released for DXP Platform.; DatasheetDocument: Dec-1997; PackageReference: DO-203AB; Publisher: Altium Limited; ComponentLink1Description: Manufacturer Link; ComponentLink1URL: http://www.irf.com/; ComponentLink2Description: Datasheet; ComponentLink2URL: http://www.irf.com/product-info/datasheets/data/50hq.pdf
simulation model 50HQ040 (DIODE)
signal-integrity model 50HQ040
pins: 1 A, 2 K

## 50HQ045
designator D?
Schottky Rectifier; Note: No PCB Footprint Available; Published: 8-Jun-2000; LatestRevisionDate: 17-Jul-2002; LatestRevisionNote: Re-released for DXP Platform.; DatasheetDocument: Dec-1997; PackageReference: DO-203AB; Publisher: Altium Limited; ComponentLink1Description: Manufacturer Link; ComponentLink1URL: http://www.irf.com/; ComponentLink2Description: Datasheet; ComponentLink2URL: http://www.irf.com/product-info/datasheets/data/50hq.pdf
simulation model 50HQ045 (DIODE)
signal-integrity model 50HQ045
pins: 1 A, 2 K

## 50SQ080
designator D?
Schottky Rectifier; Published: 8-Jun-2000; LatestRevisionDate: 17-Jul-2002; LatestRevisionNote: Re-released for DXP Platform.; DatasheetDocument: Nov-1997; PackageReference: DO-204AR; Publisher: Altium Limited; Code_JEDEC: DO-204-AR; ComponentLink1Description: Manufacturer Link; ComponentLink1URL: http://www.irf.com/; ComponentLink2Description: Datasheet; ComponentLink2URL: http://www.irf.com/product-info/datasheets/data/50sq.pdf
footprint DO-204AR (Diode, Axial; Body 9.5 x 6.4 mm (LxDia. max), Lead Dia. 1.32 mm (max))
signal-integrity model 50SQ080
pins: 1 A, 2 K

## 50SQ100
designator D?
Schottky Rectifier; Published: 8-Jun-2000; LatestRevisionDate: 17-Jul-2002; LatestRevisionNote: Re-released for DXP Platform.; DatasheetDocument: Nov-1997; PackageReference: DO-204AR; Publisher: Altium Limited; Code_JEDEC: DO-204-AR; ComponentLink1Description: Manufacturer Link; ComponentLink1URL: http://www.irf.com/; ComponentLink2Description: Datasheet; ComponentLink2URL: http://www.irf.com/product-info/datasheets/data/50sq.pdf
footprint DO-204AR (Diode, Axial; Body 9.5 x 6.4 mm (LxDia. max), Lead Dia. 1.32 mm (max))
signal-integrity model 50SQ100
pins: 1 A, 2 K

## 50WQ03F
designator D?
Schottky Rectifier; Note: Pin 2 (cathode) is trimmed but is electrically connected to Terminal 4 (BASE); Pin 1 is not connected and not drawn; Published: 8-Jun-2000; LatestRevisionDate: 17-Jul-2002; LatestRevisionNote: Re-released for DXP Platform.; DatasheetDocument: Dec-1997; PackageDocument: Dec-1997; PackageReference: TO-252AA_A; Publisher: Altium Limited; ComponentLink1Description: Manufacturer Link; ComponentLink1URL: http://www.irf.com/; ComponentLink2Description: Datasheet; ComponentLink2URL: http://www.irf.com/product-info/datasheets/data/50wq04f.pdf
footprint TO-252AA_A (D-PAK/TO-252-AA; 3 Leads (1 Cropped); Body 10.2 (inc. leads) x 6.7 mm (LxW max))
simulation model 50WQ03F (DIODE)
signal-integrity model 50WQ03F
pins: 3 A, 4 K

## 50WQ04F
designator D?
Schottky Rectifier; Note: Pin 2 (cathode) is trimmed but is electrically connected to Terminal 4 (BASE); Pin 1 is not connected and not drawn; Published: 8-Jun-2000; LatestRevisionDate: 17-Jul-2002; LatestRevisionNote: Re-released for DXP Platform.; DatasheetDocument: Dec-1997; PackageDocument: Dec-1997; PackageReference: TO-252AA_A; Publisher: Altium Limited; ComponentLink1Description: Manufacturer Link; ComponentLink1URL: http://www.irf.com/; ComponentLink2Description: Datasheet; ComponentLink2URL: http://www.irf.com/product-info/datasheets/data/50wq04f.pdf
footprint TO-252AA_A (D-PAK/TO-252-AA; 3 Leads (1 Cropped); Body 10.2 (inc. leads) x 6.7 mm (LxW max))
simulation model 50WQ04F (DIODE)
signal-integrity model 50WQ04F
pins: 3 A, 4 K

## 50WQ05F
designator D?
Schottky Rectifier; Note: Pin 2 (cathode) is trimmed but is electrically connected to Terminal 4 (BASE); Pin 1 is not connected and not drawn; Published: 8-Jun-2000; LatestRevisionDate: 17-Jul-2002; LatestRevisionNote: Re-released for DXP Platform.; DatasheetDocument: Dec-1997; PackageDocument: Dec-1997; PackageReference: TO-252AA_A; Publisher: Altium Limited; ComponentLink1Description: Manufacturer Link; ComponentLink1URL: http://www.irf.com/; ComponentLink2Description: Datasheet; ComponentLink2URL: http://www.irf.com/product-info/datasheets/data/50wq06f.pdf
footprint TO-252AA_A (D-PAK/TO-252-AA; 3 Leads (1 Cropped); Body 10.2 (inc. leads) x 6.7 mm (LxW max))
simulation model 50WQ05F (DIODE)
signal-integrity model 50WQ05F
pins: 3 A, 4 K

## 50WQ06F
designator D?
Schottky Rectifier; Note: Pin 2 (cathode) is trimmed but is electrically connected to Terminal 4 (BASE); Pin 1 is not connected and not drawn; Published: 8-Jun-2000; LatestRevisionDate: 17-Jul-2002; LatestRevisionNote: Re-released for DXP Platform.; DatasheetDocument: Dec-1997; PackageDocument: Dec-1997; PackageReference: TO-252AA_A; Publisher: Altium Limited; ComponentLink1Description: Manufacturer Link; ComponentLink1URL: http://www.irf.com/; ComponentLink2Description: Datasheet; ComponentLink2URL: http://www.irf.com/product-info/datasheets/data/50wq06f.pdf
footprint TO-252AA_A (D-PAK/TO-252-AA; 3 Leads (1 Cropped); Body 10.2 (inc. leads) x 6.7 mm (LxW max))
simulation model 50WQ06F (DIODE)
signal-integrity model 50WQ06F
pins: 3 A, 4 K

## 50WQ06FN
designator D?
Schottky Rectifier; Note: Pin 2 is trimmed and not drawn; Published: 17-Sep-2003; LatestRevisionDate: 06-Jun-2005; LatestRevisionNote: Sch symbol re-drawn; DatasheetDocument: revE, Mar-2003; PackageDocument: Feb-2003; PackageReference: TO-252AA; Publisher: Altium Limited; Code_JEDEC: TO-252-AA; ComponentLink1Description: Manufacturer Link; ComponentLink1URL: http://www.irf.com/; ComponentLink2Description: Datasheet; ComponentLink2URL: http://www.irf.com/product-info/datasheets/data/50WQ06FN.pdf
footprint TO-252AA (D-PAK/TO-252-AA; 3 Leads (1 Cropped); Body 10.4 (inc. leads) x 6.7 mm (LxW max))
simulation model 50WQ06FN (SUBCKT)
pins: 1 A, 3 A, 4 K
text: 1, 3

## 50WQ09F
designator D?
Schottky Rectifier; Note: Pin 2 (cathode) is trimmed but is electrically connected to Terminal 4 (BASE); Pin 1 is not connected and not drawn; Published: 8-Jun-2000; LatestRevisionDate: 17-Jul-2002; LatestRevisionNote: Re-released for DXP Platform.; DatasheetDocument: Dec-1997; PackageDocument: Dec-1997; PackageReference: TO-252AA_A; Publisher: Altium Limited; ComponentLink1Description: Manufacturer Link; ComponentLink1URL: http://www.irf.com/; ComponentLink2Description: Datasheet; ComponentLink2URL: http://www.irf.com/product-info/datasheets/data/50wq10f.pdf
footprint TO-252AA_A (D-PAK/TO-252-AA; 3 Leads (1 Cropped); Body 10.2 (inc. leads) x 6.7 mm (LxW max))
simulation model 50WQ09F (DIODE)
signal-integrity model 50WQ09F
pins: 3 A, 4 K

## 50WQ10F
designator D?
Schottky Rectifier; Note: Pin 2 (cathode) is trimmed but is electrically connected to Terminal 4 (BASE); Pin 1 is not connected and not drawn; Published: 8-Jun-2000; LatestRevisionDate: 17-Jul-2002; LatestRevisionNote: Re-released for DXP Platform.; DatasheetDocument: Dec-1997; PackageDocument: Dec-1997; PackageReference: TO-252AA_A; Publisher: Altium Limited; ComponentLink1Description: Manufacturer Link; ComponentLink1URL: http://www.irf.com/; ComponentLink2Description: Datasheet; ComponentLink2URL: http://www.irf.com/product-info/datasheets/data/50wq10f.pdf
footprint TO-252AA_A (D-PAK/TO-252-AA; 3 Leads (1 Cropped); Body 10.2 (inc. leads) x 6.7 mm (LxW max))
simulation model 50WQ10F (DIODE)
signal-integrity model 50WQ10F
pins: 3 A, 4 K

## 51HQ035
designator D?
Schottky Rectifier; Note: No PCB Footprint Available; Published: 8-Jun-2000; LatestRevisionDate: 17-Jul-2002; LatestRevisionNote: Re-released for DXP Platform.; DatasheetDocument: Dec-1997; PackageReference: DO-203AB; Publisher: Altium Limited; ComponentLink1Description: Manufacturer Link; ComponentLink1URL: http://www.irf.com/; ComponentLink2Description: Datasheet; ComponentLink2URL: http://www.irf.com/product-info/datasheets/data/51hq.pdf
simulation model 51HQ035 (DIODE)
signal-integrity model 51HQ035
pins: 1 A, 2 K

## 51HQ040
designator D?
Schottky Rectifier; Note: No PCB Footprint Available; Published: 8-Jun-2000; LatestRevisionDate: 17-Jul-2002; LatestRevisionNote: Re-released for DXP Platform.; DatasheetDocument: Dec-1997; PackageReference: DO-203AB; Publisher: Altium Limited; ComponentLink1Description: Manufacturer Link; ComponentLink1URL: http://www.irf.com/; ComponentLink2Description: Datasheet; ComponentLink2URL: http://www.irf.com/product-info/datasheets/data/51hq.pdf
simulation model 51HQ040 (DIODE)
signal-integrity model 51HQ040
pins: 1 A, 2 K

## 51HQ045
designator D?
Schottky Rectifier; Note: No PCB Footprint Available; Published: 8-Jun-2000; LatestRevisionDate: 17-Jul-2002; LatestRevisionNote: Re-released for DXP Platform.; DatasheetDocument: Dec-1997; PackageReference: DO-203AB; Publisher: Altium Limited; ComponentLink1Description: Manufacturer Link; ComponentLink1URL: http://www.irf.com/; ComponentLink2Description: Datasheet; ComponentLink2URL: http://www.irf.com/product-info/datasheets/data/51hq.pdf
simulation model 51HQ045 (DIODE)
signal-integrity model 51HQ045
pins: 1 A, 2 K